# EAGLE library part SI6963BDQ (library m_transistor)
Dual P-Channel 2.5-V (G-S) MOSFET Added 11/19/2012
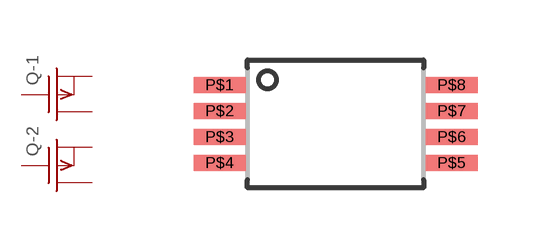
[diagram p1: symbol with the pads of TSSOP-8; footprint TSSOP-8]

Designator prefix Q; gates -1=P_MOSFET -2=P_MOSFET

## SI6963BDQ (MANUF: Vishay; PARTNUM: Si6963BDQ-T1-GE3)  [TSSOP-8]
P$1  -1:D  pas
P$2  -1:S  pas
P$3  -1:S  pas
P$4  -1:G  pas
P$5  -2:G  pas
P$6  -2:S  pas
P$7  -2:S  pas
P$8  -2:D  pas

## Footprint TSSOP-8 (pad centres in mm)
TSSOP-8 Surface Mount Package Downloaded from http://www.semicon.toshiba.co.jp/eng/product/transistor/package/tssop-8.html?action=print Added 6/10/2012
smd 1.3 x 0.4: P$1 -2.9,0.975; P$2 -2.9,0.325; P$3 -2.9,-0.325; P$4 -2.9,-0.975; P$5 2.9,-0.975; P$6 2.9,-0.325; P$7 2.9,0.325; P$8 2.9,0.975